# Altium footprint library MLACHD_D.PCBLIB: 41 footprints (part 3 of 3)
Each footprint in its own frame and in the unit in brackets; x right, y up, seen from the top. Pads: shape width x height; smd on the part's side, far side on the other; paste and mask are expansions set on the pad; w line width, h text height; cw(c..) or ccw(c..) is an arc to the next point about the centre after c.
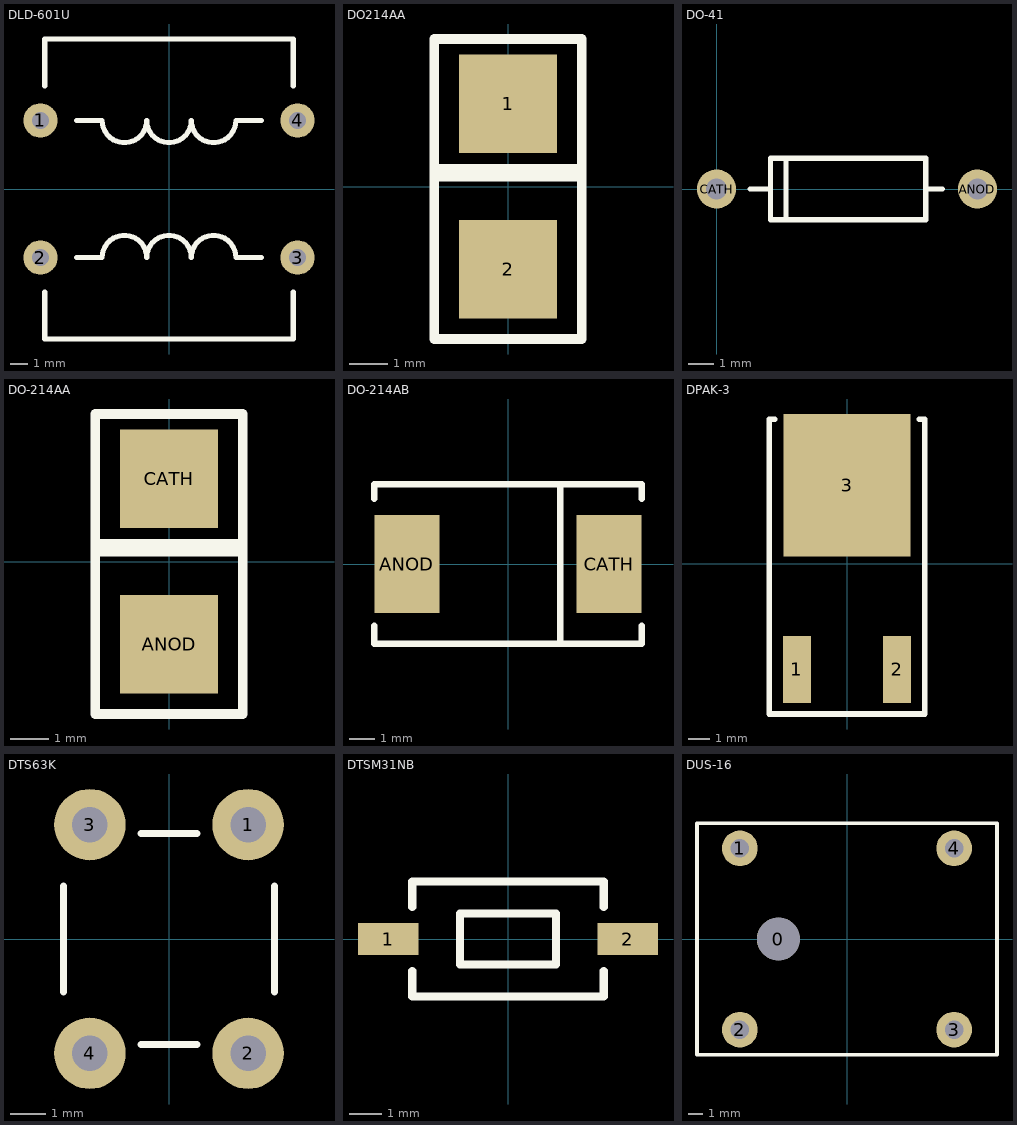
[diagram p2: the footprints below, top view; thin cyan lines are the x and y axes]

## DLD-601U [mm]
pads (4):
  round 2 hole 1: 1(-7.5,4) 2(-7.5,-4) 3(7.5,-4) 4(7.5,4)
TopOverlay:
  lines w0.3: -7.25,-6 -7.25,-8.75 7.25,-8.75 7.25,-6 ; -7.25,6 -7.25,8.75 7.25,8.75 7.25,6 ; -5.4,-4 -3.9,-4 cw(c-2.6,-4) -1.3,-4 cw(c0,-4) 1.3,-4 cw(c2.6,-4) 3.9,-4 5.4,-4 ; -5.4,4 -3.9,4 ccw(c-2.6,4) -1.3,4 ccw(c0,4) 1.3,4 ccw(c2.6,4) 3.9,4 5.4,4
3D body: height 6, standoff 0, extent 7,-4.5 7.996,-3.502
3D body: height 6, standoff 0, extent 7,3.5 7.996,4.498
3D body: height 6, standoff 0, extent -8,3.5 -7.004,4.498
3D body: height 17.68, standoff 0.25, extent -7.2,-8.7 7.3,8.765
3D body: height 6, standoff 0, extent -8,-4.5 -7.004,-3.502

## DO214AA [mm]
pads (2):
  rect 2.54x2.54 smd: 1(0,2.135) 2(0,-2.135)
TopOverlay:
  lines w0.254: -1.905,0.254 1.905,0.254 ; -1.905,0.457 1.905,0.457 ; -1.905,-3.937 -1.905,3.81 1.905,3.81 1.905,-3.937 -1.905,-3.937

## DO-41 [mil]
pads (2):
  round 60 hole 32: ANOD(400,0) CATH(0,0)
TopOverlay:
  lines w8: 51.18,0 82.68,0 ; 106.3,-47.24 106.3,47.24 ; 320.87,0 346.46,0 ; 82.68,-47.24 82.68,47.24 320.87,47.24 320.87,-47.24 82.68,-47.24
3D body: height 58.96, standoff 35.43, extent 250.39,-11.76 400,11.81
3D body: height 59.06, standoff -78.74, extent 388.24,-11.76 411.76,11.81
3D body: height 59.06, standoff -78.74, extent -11.76,-11.79 11.76,11.79
3D body: height 58.96, standoff 35.43, extent 0,-11.79 149.61,11.79
3D body: height 94.12, standoff 0, extent 78.74,-47.22 322.83,47.08
3D body: height 98.02, standoff -3.94, extent 92.52,-51.16 112.2,51

## DO-214AA [mm]
pads (2):
  rect 2.54x2.54 smd: ANOD(0,-2.135) CATH(0,2.135)
TopOverlay:
  lines w0.254: -1.905,0.254 1.905,0.254 ; -1.905,0.457 1.905,0.457 ; -1.905,-3.937 -1.905,3.81 1.905,3.81 1.905,-3.937 -1.905,-3.937

## DO-214AB [mil]
pads (2):
  rect 100x150 smd: ANOD(-155,0) CATH(155,0)
TopOverlay:
  lines w10: -205,-95 -205,-122.05 205,-122.05 205,-95 ; -205,100 -205,122.05 205,122.05 205,100 ; 80,-120 80,120
3D body: height 51.18, standoff 0, extent 137.8,-62.99 165.35,62.99
3D body: height 51.18, standoff 0, extent -165.35,-62.99 -137.8,62.99
3D body: height 102.36, standoff 0, extent -137.8,-122.05 137.8,122.05
3D body: height 106.3, standoff 102.36, extent 70.87,-118.11 90.55,118.11

## DPAK-3 [mil]
pads (3):
  rect 50x120 smd: 1(-90,-190) 2(90,-190)
  rect 228.35x255.91 smd: 3(0,141.34)
TopOverlay:
  lines w10: -130,260 -140,260 -140,-270 140,-270 140,260 130,260

## DTS63K [mil]
pads (4):
  round 80 hole 40: 1(88.58,127.95) 2(88.58,-127.95) 3(-88.58,127.95) 4(-88.58,-127.95)
TopOverlay:
  lines w8: -118.11,-59.06 -118.11,59.06 ; -31.5,-118.11 31.5,-118.11 ; -31.5,118.11 31.5,118.11 ; 118.11,-59.06 118.11,59.06
3D body: height 275.59, standoff 0, extent -68.9,-68.9 68.35,68.63
3D body: height 137.8, standoff 0, extent -118.11,-118.11 118.11,118.11
3D body: height 19.68, standoff -78.74, extent -98.43,118.11 -78.74,133.86
3D body: height 19.68, standoff -78.74, extent 78.74,118.11 98.43,133.86
3D body: height 19.68, standoff -78.74, extent -98.43,-133.86 -78.74,-118.11
3D body: height 19.68, standoff -78.74, extent 78.74,-133.86 98.43,-118.11

## DTSM31NB [mm]
pads (2):
  rect 1.9x1.016 smd: 1(-3.75,0) 2(3.75,0)
TopOverlay:
  lines w0.254: -3,-1 -3,-1.8 3,-1.8 3,-1 ; -3,1 -3,1.8 3,1.8 3,1 ; -1.5,-0.8 1.5,-0.8 1.5,0.8 -1.5,0.8 -1.5,-0.8

## DUS-16 [mm]
pads (5):
  round 3 hole 3: 0(-4.8,0)
  round 2.5 hole 1.3: 1(-7.5,6.35) 2(-7.5,-6.35) 3(7.5,-6.35) 4(7.5,6.35)
TopOverlay:
  lines w0.25: -10.5,-8.1 -10.5,8.1 10.5,8.1 10.5,-8.1 -10.5,-8.1
3D body: height 23, standoff 0, extent -10.5,-8.1 10.5,8.1